# Altium footprint library 43650-0300.PcbLib: 1 footprints
Each footprint in its own frame and in the unit in brackets; x right, y up, seen from the top. Pads: shape width x height; smd on the part's side, far side on the other; paste and mask are expansions set on the pad; w line width, h text height; cw(c..) or ccw(c..) is an arc to the next point about the centre after c.
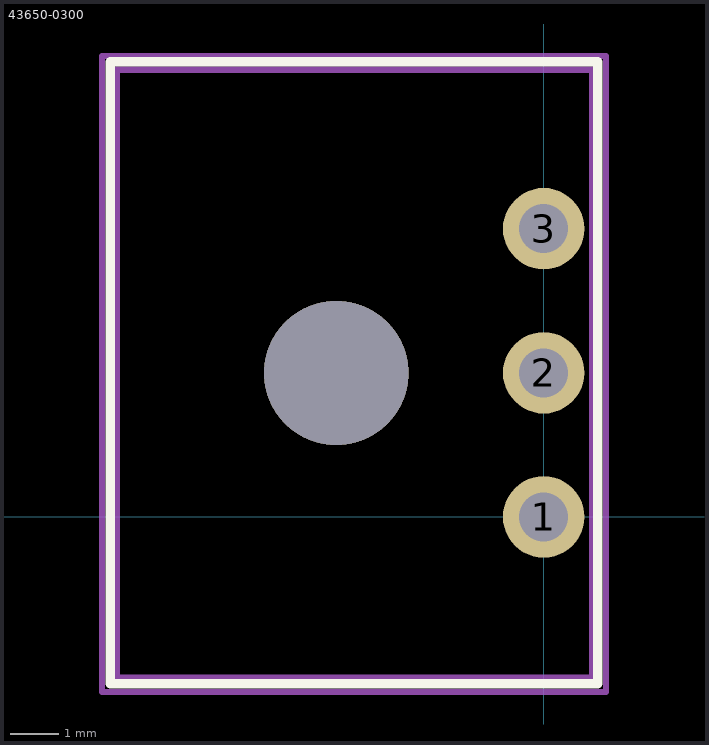
[diagram p0: the footprint, top view; thin cyan lines are the x and y axes]

## 43650-0300 [mm] "Molex Micro-Fit 3.0 1x3"
pads (3):
  round 1.7 hole 1.02: 1(0,0) 2(0,3) 3(0,6)
via -4.32,3 diameter 3 hole 3
Top Overlay:
  lines w0.2: -9.025,-3.475 -9.025,9.475 1.125,9.475 1.125,-3.475 -9.025,-3.475
Top Assembly:
  lines w0.127: -8.89,-3.35 1.01,-3.35 1.01,9.31 -8.89,9.31 -8.89,-3.35
Top Courtyard:
  lines w0.127: -9.2,-3.65 1.3,-3.65 1.3,9.6 -9.2,9.6 -9.2,-3.65
3D body "436500300.stp": height 5.64, standoff -3.27, extent -8.89,-3.34 1.01,9.31